# Altium integrated library C0402.IntLib: 1 symbol
Pins are listed as number, name and electrical type; pins without a type are passive.

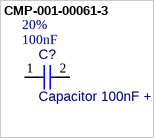
[diagram p0: symbol CMP-001-00061-3]

## CMP-001-00061-3
designator C?, comment Capacitor 100nF +/-20% 10V 0402  value 100nF  Tolerance: 20%  Mounting Technology: SMT  Voltage Rating: 10V  Max Operating Temperature: 85°C  Pins: 2  Case/Package: 0402  Min Operating Temperature: -55°C
Chip Capacitor, 100nF +/-20%, 10V, 0402, Thickness 0.6 mm
footprint CAPC0603(1608)100_L (Chip Capacitor, Body 1.6x0.8mm, Height 1.0mm, IPC High Density)
footprint CAPC0402(1005)60_L (Chip Capacitor, Body 1.0x0.5mm, Height 0.6mm, IPC High Density)
pins: 1, 2